# Altium footprint library Type_C.PcbLib: 4 footprints
Each footprint in its own frame and in the unit in brackets; x right, y up, seen from the top. Pads: shape width x height; smd on the part's side, far side on the other; paste and mask are expansions set on the pad; w line width, h text height; cw(c..) or ccw(c..) is an arc to the next point about the centre after c.
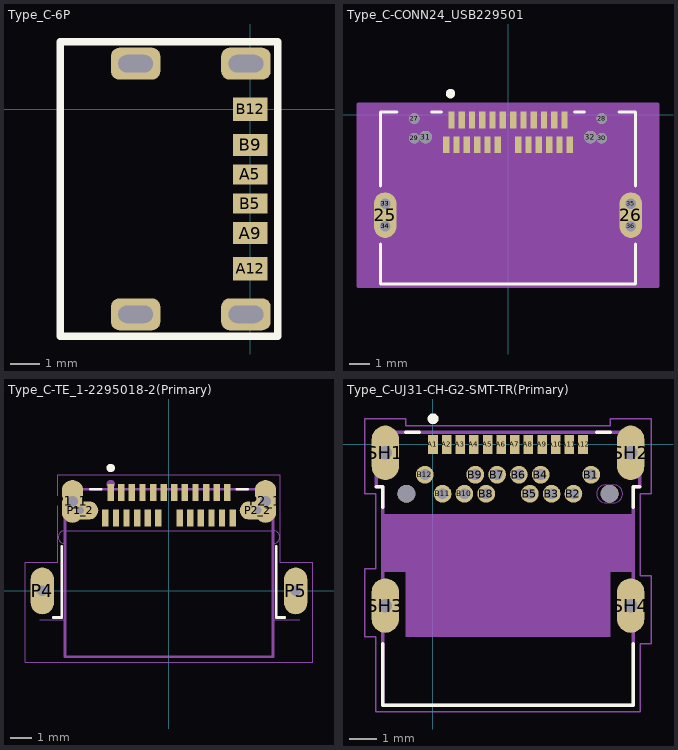
[diagram p0: the footprints below, top view; thin cyan lines are the x and y axes]

## Type_C-6P [mm]
pads (10):
  rect 1.2x0.7 smd: A5(0,-2.25) B5(0,-3.25)
  rect 1.2x0.76 smd: A9(0,-4.27) B9(0,-1.23)
  rect 1.2x0.8 smd: A12(0,-5.5) B12(0,0)
  rrect50% 1.7x1.1 hole 0.6 slot 1.2 at 0 deg: ""(-3.95,-7.07) ""(-3.95,1.57) ""(-0.15,-7.07) ""(-0.15,1.57)
Top Overlay:
  lines w0.254: -6.547,-7.83 0.946,-7.83 0.946,2.33 -6.547,2.33 -6.547,-7.83
3D body: height 3.18, standoff -0.9, extent -6.589,-7.22 0.311,1.72

## Type_C-CONN24_USB229501 [mil]
pads (38):
  oval 43x87 smd: 25(-235.04,-192.52) 26(235.04,-192.52)
  round 20 hole 20: 27(-179.13,-7.68) 28(179.13,-7.68) 29(-179.13,-45.12) 30(179.13,-45.12) 33(-235.04,-171.02) 33(-235.04,-171.02) 34(-235.04,-214.02) 34(-235.04,-214.02) 35(235.04,-171.02) 36(235.04,-214.02)
  round 24 hole 24: 31(-157.48,-43.11) 32(157.48,-43.11)
  rect 12x32 smd paste+0 mask+0: A1(-108.27,-10.47) A2(-88.58,-10.47) A3(-68.9,-10.47) A4(-49.21,-10.47) A5(-29.53,-10.47) A6(-9.84,-10.47) A7(9.84,-10.47) A8(29.53,-10.47) A9(49.21,-10.47) A10(68.9,-10.47) A11(88.58,-10.47) A12(108.27,-10.47) B1(118.11,-57.72) B2(98.43,-57.72) B3(78.74,-57.72) B4(59.06,-57.72) B5(39.37,-57.72) B6(19.68,-57.72) B7(-19.68,-57.72) B8(-39.37,-57.72) B9(-59.06,-57.72) B10(-78.74,-57.72) B11(-98.43,-57.72) B12(-118.11,-57.72)
Top Overlay:
  circle w10: c-110,40 r4
  lines w6: -244,-247.94 -244,-324 244,-324 244,-247.94 ; -244,-137.1 -244,5 -212.23,5 ; -146.03,5 -127.1,5 ; 127.1,5 146.03,5 ; 212.23,5 244,5 244,-137.1
Bottom Overlay:
  circle w10: c-110,40 r4
Mechanical 13:
  circle w5: c-110,40 r4
  lines w1: -239,-319 -239,0 239,0 239,-319 -239,-319
Mechanical 15:
  region: 239,0 -239,0 -239,-319 239,-319
  region: 287,20 -287,20 -287,-329 287,-329
  lines w6: -287,-329 287,-329 287,20 -287,20 -287,-329
Multi-Layer:
  lines w1: -189.13,-45.12 -189.13,-7.68 ; -179.13,-55.12 -157.48,-55.11 ; -169.13,-7.68 -169.13,-31.11 -157.48,-31.11 ; 157.48,-55.11 179.13,-55.12 ; 157.48,-31.11 169.13,-31.11 169.13,-7.68 ; 189.13,-45.12 189.13,-7.68 ; -245.04,-214.02 -245.04,-171.02 -245.04,-214.02 ; -225.04,-214.02 -225.04,-171.02 -225.04,-214.02 ; -194,-319 194,-319 194,-91 -194,-91 -194,-319 ; 225.04,-214.02 225.04,-171.02 225.04,-214.02 ; 245.04,-214.02 245.04,-171.02 245.04,-214.02
3D body: height 96.06, standoff -45.67, extent -238.97,-315.86 238.99,2.84

## Type_C-TE_1-2295018-2(Primary) [mm]
pads (30):
  rect 0.3x0.8 smd: A1(-2.75,4.63) A2(-2.25,4.63) A3(-1.75,4.63) A4(-1.25,4.63) A5(-0.75,4.63) A6(-0.25,4.63) A7(0.25,4.63) A8(0.75,4.63) A9(1.25,4.63) A10(1.75,4.63) A11(2.25,4.63) A12(2.75,4.63) B1(3,3.43) B2(2.5,3.43) B3(2,3.43) B4(1.5,3.43) B5(1,3.43) B6(0.5,3.43) B7(-0.5,3.43) B8(-1,3.43) B9(-1.5,3.43) B10(-2,3.43) B11(-2.5,3.43) B12(-3,3.43)
  oval 1.008x2.016 hole 0.5: P1_1(-4.55,4.22) P2_1(4.55,4.22)
  oval 1.716x0.858 hole 0.35: P1_2(-4.191,3.795) P2_2(4.191,3.795)
  oval 1.1x2.2 hole 0.5: P4(-5.97,0) P5(5.97,0)
Top Overlay:
  circle w0.2: c-2.75,5.795 r0.1
  lines w0.127: -5.45,-1.25 -5.05,-1.25 -5.05,2.1 ; -3.7,4.795 -3.2,4.795 ; 3.2,4.795 3.7,4.795 ; 5.05,2.1 5.05,-1.25 5.45,-1.25
Mechanical 1:
  lines w0: -6.09,-1.36 -4.92,-1.36 -4.92,2.24 cw(c-4.92,2.54) -5.22,2.54 cw(c-4.92,2.54) -4.92,2.84 4.93,2.84 cw(c4.925,2.545) 5.22,2.54 ; -4.3,4.25 -4.3,4.695 ccw(c-4.55,4.695) -4.55,4.945 ccw(c-4.55,4.695) -4.8,4.695 -4.8,3.745 ccw(c-4.55,3.745) -4.55,3.495 -4,3.495 ccw(c-4,3.795) -3.7,3.795 ; -4.3,4.25 ccw(c-4.15,4.245) -4.155,4.095 -4.005,4.095 ; -4.002,4.095 cw(c-4.002,3.792) -3.7,3.792 ; 4.3,4.25 4.3,4.695 cw(c4.55,4.695) 4.55,4.945 cw(c4.55,4.695) 4.8,4.695 4.8,3.745 cw(c4.55,3.745) 4.55,3.495 4,3.495 cw(c4,3.795) 3.7,3.795 cw(c4,3.795) 4,4.095 4.155,4.095 ccw(c4.15,4.245) 4.3,4.25 ; 4.919,2.24 ccw(c4.929,2.531) 5.22,2.541 ; 4.92,2.24 4.92,-1.36 6.17,-1.36 ; -6.22,-0.55 ccw(c-5.97,-0.55) -5.97,-0.8 ccw(c-5.97,-0.55) -5.72,-0.55 -5.72,0.55 ccw(c-5.97,0.55) -5.97,0.8 ccw(c-5.97,0.55) -6.22,0.55 -6.22,-0.55 ; 5.72,-0.55 ccw(c5.97,-0.55) 5.97,-0.8 ccw(c5.97,-0.55) 6.22,-0.55 6.22,0.55 ccw(c5.97,0.55) 5.97,0.8 ccw(c5.97,0.55) 5.72,0.55 5.72,-0.55
Mechanical 4:
  circle w0.2: c-2.75,5.035 r0.1
  circle w0.2: c-2.75,5.035 r0.1
  lines w0.127: -4.9,-3.105 4.9,-3.105 ; -4.9,-3.105 -4.9,4.795 ; -4.9,-3.105 4.9,-3.105 ; -4.9,-3.105 -4.9,4.795 ; -4.9,4.795 4.9,4.795 ; -4.9,4.795 4.9,4.795 ; 4.9,-3.105 4.9,4.795 ; 4.9,-3.105 4.9,4.795
Mechanical 16:
  lines w0.05: -6.77,-3.355 6.77,-3.355 6.77,1.35 5.25,1.35 5.25,5.48 -5.25,5.48 -5.25,1.35 -6.77,1.35 -6.77,-3.355
3D body: height 2.5, standoff -1.1, extent -6.07,-3.142 6.07,4.953

## Type_C-UJ31-CH-G2-SMT-TR(Primary) [mm]
pads (30):
  rect 0.35x0.7 smd: A1(0,0) A2(0.5,0) A3(1,0) A4(1.5,0) A5(2,0) A6(2.5,0) A7(3,0) A8(3.5,0) A9(4,0) A10(4.5,0) A11(5,0) A12(5.5,0)
  round 0.65 hole 0.4: B1(5.8,-1.11) B2(5.15,-1.81) B3(4.35,-1.81) B4(3.95,-1.11) B5(3.55,-1.81) B6(3.15,-1.11) B7(2.35,-1.11) B8(1.95,-1.81) B9(1.55,-1.11) B10(1.15,-1.81) B11(0.35,-1.81) B12(-0.3,-1.11)
  round 0.65 hole 0.65 unplated: None(-0.975,-1.81) None(6.475,-1.81)
  oval 1x2 hole 0.5: SH1(-1.75,-0.31) SH2(7.25,-0.31) SH3(-1.75,-5.91) SH4(7.25,-5.91)
Top Overlay:
  circle w0.2: c0,0.94 r0.1
  lines w0.127: -2.075,-1.56 -1.85,-1.56 -1.85,-2.31 ; -1.85,-7.31 -1.85,-9.56 7.35,-9.56 7.35,-7.31 ; -1,0.44 -0.5,0.44 ; 6,0.44 6.5,0.44 ; 7.35,-2.31 7.35,-1.56 7.575,-1.56
Mechanical 1:
  lines w0: -2,-6.31 ccw(c-1.75,-6.31) -1.5,-6.31 -1.5,-5.51 ccw(c-1.75,-5.51) -2,-5.51 -2,-6.31 ; -2,-0.61 ccw(c-1.75,-0.61) -1.5,-0.61 -1.5,-0.01 ccw(c-1.75,-0.01) -2,-0.01 -2,-0.61 ; 6.325,-2.135 cw(c6.325,-1.81) 6.325,-1.485 6.625,-1.485 cw(c6.625,-1.81) 6.625,-2.135 6.325,-2.135 ; 7,-6.31 ccw(c7.25,-6.31) 7.5,-6.31 7.5,-5.51 ccw(c7.25,-5.51) 7,-5.51 7,-6.31 ; 7,-0.61 ccw(c7.25,-0.61) 7.5,-0.61 7.5,-0.01 ccw(c7.25,-0.01) 7,-0.01 7,-0.61
Mechanical 4:
  region: -1.85,-2.56 7.35,-2.56 7.35,-4.66 6.5,-4.66 6.5,-7.06 -1,-7.06 -1,-4.66 -1.85,-4.66
  region: -1.85,-2.56 7.35,-2.56 7.35,-4.66 6.5,-4.66 6.5,-7.06 -1,-7.06 -1,-4.66 -1.85,-4.66
  region: -1.85,-2.56 7.35,-2.56 7.35,-4.66 6.5,-4.66 6.5,-7.06 -1,-7.06 -1,-4.66 -1.85,-4.66
  region: -1.85,-2.56 7.35,-2.56 7.35,-4.66 6.5,-4.66 6.5,-7.06 -1,-7.06 -1,-4.66 -1.85,-4.66
  lines w0.127: -2.075,-1.56 -2.075,0.44 ; -2.075,-1.56 -1.85,-1.56 ; -2.075,-1.56 -2.075,0.44 ; -2.075,-1.56 -1.85,-1.56 ; -2.075,0.44 7.575,0.44 ; -2.075,0.44 7.575,0.44 ; -1.85,-9.56 -1.85,-1.56 ; -1.85,-9.56 7.35,-9.56 ; -1.85,-9.56 -1.85,-1.56 ; -1.85,-9.56 7.35,-9.56 ; 7.35,-9.56 7.35,-1.56 ; 7.35,-9.56 7.35,-1.56 ; 7.35,-1.56 7.575,-1.56 ; 7.35,-1.56 7.575,-1.56 ; 7.575,-1.56 7.575,0.44 ; 7.575,-1.56 7.575,0.44
Mechanical 16:
  lines w0.05: -2.5,-7.06 -2.5,-4.56 -2.1,-4.56 -2.1,-1.81 -2.5,-1.81 -2.5,0.94 -1,0.94 -1,0.69 6.5,0.69 6.5,0.94 8,0.94 8,-1.81 7.6,-1.81 7.6,-4.81 8,-4.81 8,-7.31 7.6,-7.31 7.6,-9.81 -2.1,-9.81 -2.1,-7.06 -2.5,-7.06
3D body: height 4.5, standoff -1.16, extent -2.062,-9.612 7.65,0.388